# EAGLE library part 7-WAY (library gee_s)
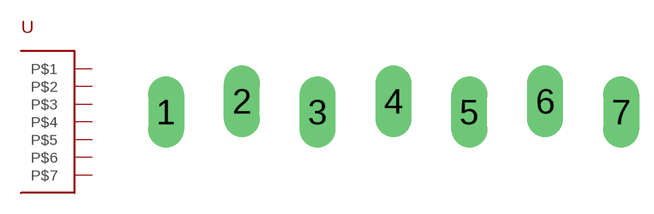
[diagram p27: symbol with the pads of 1X7-3.5MM-SCREWTERMINAL; footprint 1X7-3.5MM-SCREWTERMINAL]

Designator prefix -

## 7-WAYFORP75POGO  [1X7-3.5MM-SCREWTERMINAL]
1  P$1
2  P$2
3  P$3
4  P$4
5  P$5
6  P$6
7  P$7

## Footprint 1X7-3.5MM-SCREWTERMINAL (pad centres in mm)
drill 1.1 long: 1 -10.5,-0.25; 2 -7,0.25; 3 -3.5,-0.25; 4 0,0.25; 5 3.5,-0.25; 6 7,0.25; 7 10.5,-0.25